# Altium footprint library IND_BOURNS_SRP4020.PcbLib: 3 footprints
Each footprint in its own frame and in the unit in brackets; x right, y up, seen from the top. Pads: shape width x height; smd on the part's side, far side on the other; paste and mask are expansions set on the pad; w line width, h text height; cw(c..) or ccw(c..) is an arc to the next point about the centre after c.
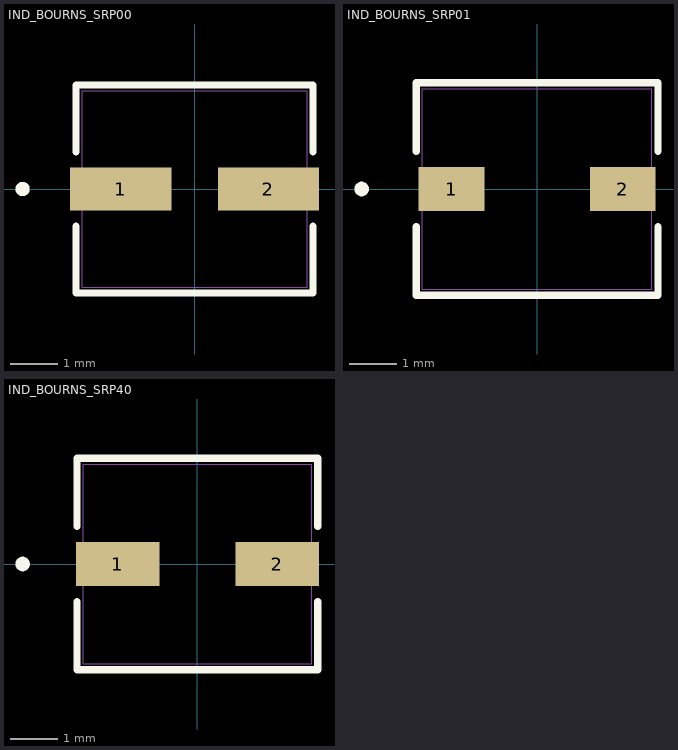
[diagram p0: the footprints below, top view; thin cyan lines are the x and y axes]

## IND_BOURNS_SRP00 [mil]
pads (2):
  rect 85x36 smd: 1(-62,0) 2(62,0)
Top Layer keep-out:
  region: 
  region: 
  region: 
Top Overlay:
  circle w6: c-144.5,0 r3
  lines w6: -99.5,-31.1 -99.5,-87.5 99.5,-87.5 99.5,-31.1 ; -99.5,31.1 -99.5,87.5 99.5,87.5 99.5,31.1
Outline:
  circle w1: c-74.5,0 r3
  lines w1: -94.5,-82.5 94.5,-82.5 94.5,82.5 -94.5,82.5 -94.5,-82.5
3D body: height 80.98, standoff 0, extent -94.48,-82.52 94.49,82.52

## IND_BOURNS_SRP01 [mil]
pads (2):
  rect 54x36 smd: 1(-70.5,0) 2(70.5,0)
Top Layer keep-out:
  region: 
  region: 
  region: 
Top Overlay:
  circle w6: c-144.5,0 r3
  lines w6: -99.5,-30.95 -99.5,-87.5 99.5,-87.5 99.5,-30.95 ; -99.5,30.95 -99.5,87.5 99.5,87.5 99.5,30.95
Outline:
  circle w1: c-74.5,0 r3
  lines w1: -94.5,-82.5 -94.5,82.5 94.5,82.5 94.5,-82.5 -94.5,-82.5
3D body: height 80.98, standoff 0, extent -94.48,-82.52 94.49,82.52

## IND_BOURNS_SRP40 [mil]
pads (2):
  rect 69x36 smd: 1(-66,0) 2(66,0)
Top Layer keep-out:
  region: 
  region: 
  region: 
Top Overlay:
  circle w6: c-144.5,0 r3
  lines w6: -99.5,-31.1 -99.5,-87.5 99.5,-87.5 99.5,-31.1 ; -99.5,31.1 -99.5,87.5 99.5,87.5 99.5,31.1
Outline:
  circle w1: c-74.5,0 r3
  lines w1: -94.5,-82.5 -94.5,82.5 94.5,82.5 94.5,-82.5 -94.5,-82.5
3D body: height 80.98, standoff 0, extent -94.49,-82.52 94.49,82.52